# Altium footprint library founder.PcbLib: 220 footprints (part 9 of 14)
Each footprint in its own frame and in the unit in brackets; x right, y up, seen from the top. Pads: shape width x height; smd on the part's side, far side on the other; paste and mask are expansions set on the pad; w line width, h text height; cw(c..) or ccw(c..) is an arc to the next point about the centre after c.
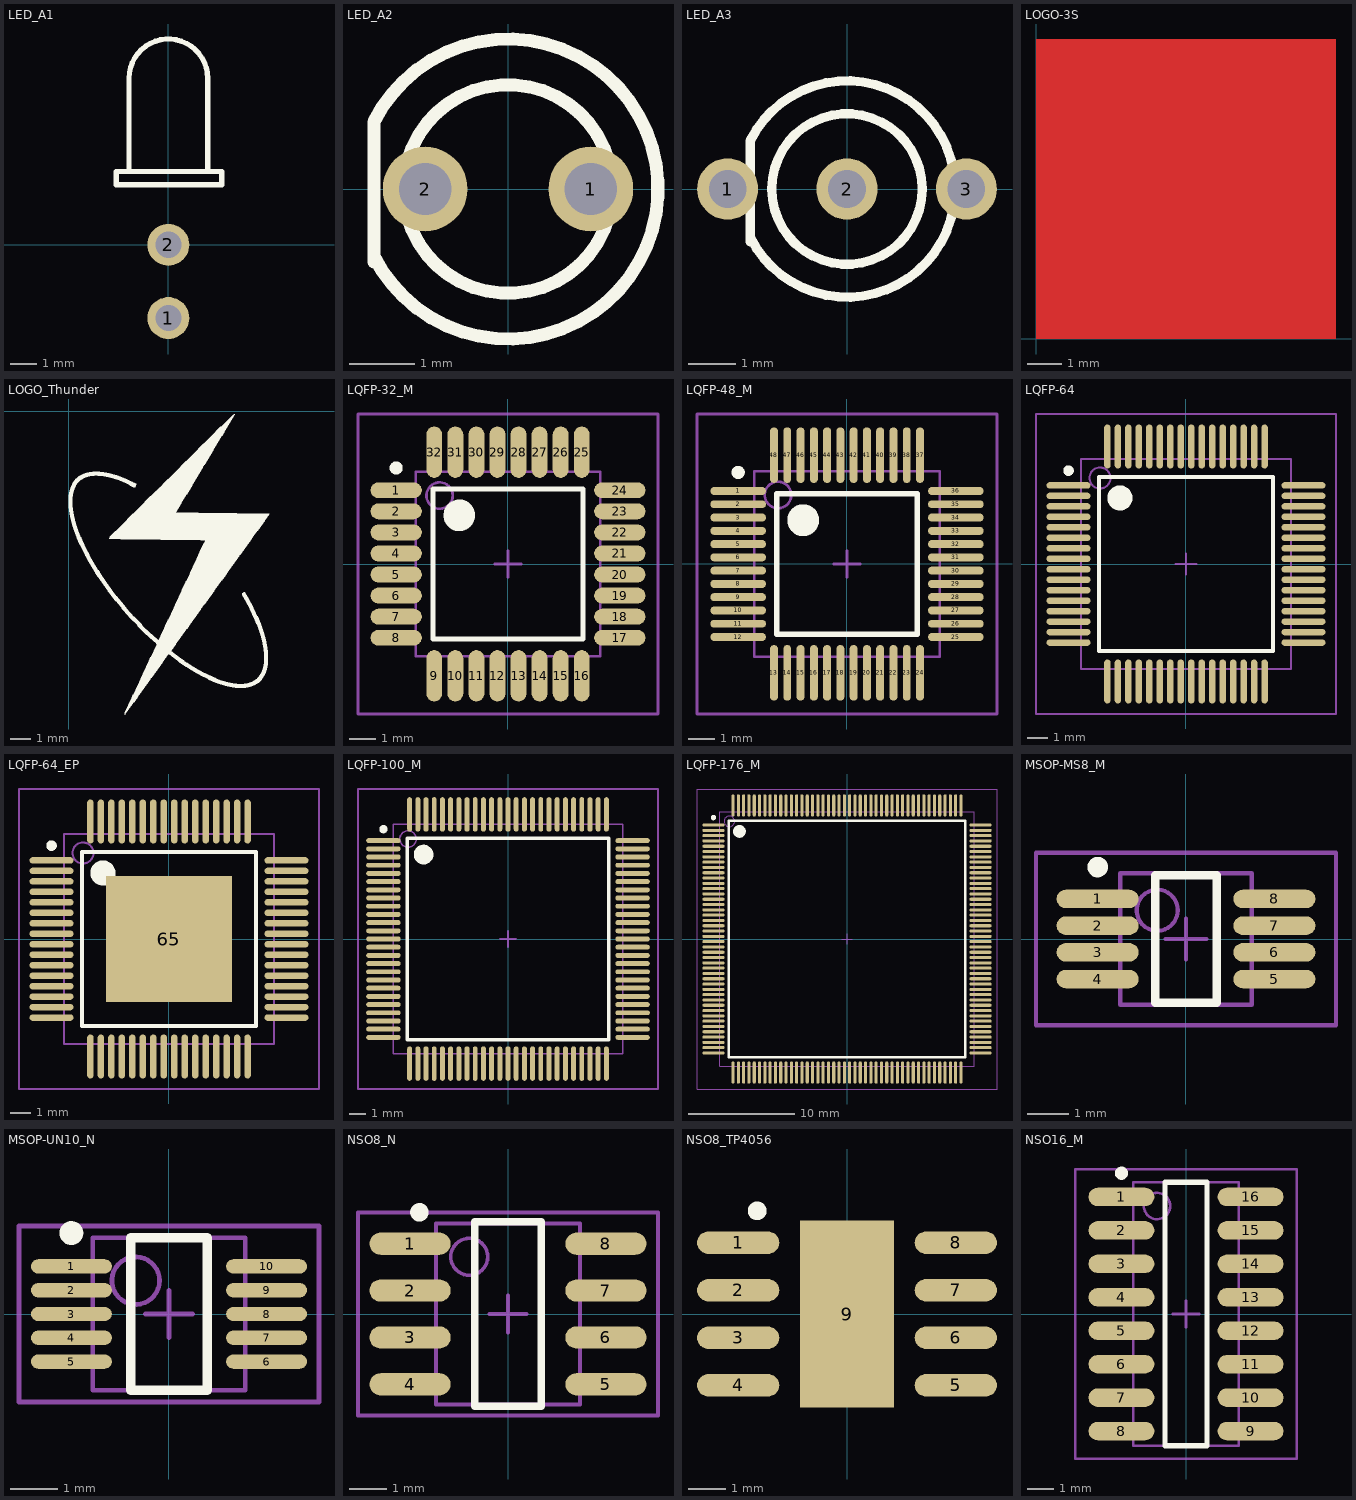
[diagram p8: the footprints below, top view; thin cyan lines are the x and y axes]

## LED_A1 [mm] "直径3MM二极管"
height 3.5
pads (2):
  round 1.6 hole 1: 1(0,-2.794) 2(0,0)
Top Overlay:
  lines w0.2: -1.5,2.852 -1.5,6.35 cw(c0,6.35) 1.5,6.35 1.5,2.852 ; -1.984,2.286 -1.984,2.794 2.032,2.794 2.032,2.286 -1.984,2.286

## LED_A2 [mm] "直径3MM二极管"
height 5.5
pads (2):
  round 1.3 hole 0.8: 1(1.27,0) 2(-1.27,0)
Top Overlay:
  circle w0.2: c0,0 r1.6
  lines w0.2: -2.057,-1.118 -2.057,1.029 cw(c0,0) -2.057,-1.029

## LED_A3 [mm] "直径3MM二极管"
height 5.5
pads (3):
  round 1.3 hole 0.8: 1(-2.54,0) 2(0,0) 3(2.54,0)
Top Overlay:
  circle w0.2: c0,0 r1.6
  lines w0.2: -2.057,-1.118 -2.057,1.029 cw(c0,0) -2.057,-1.029

## LOGO-3S [mm]
Top Layer:
  rectangle: 0,0 8.8,8.8
Top Paste:
  circle w1.8: c4.399,4.401 r1.206
  region: 2.383,2.992 0.205,2.992 0.205,3.655 1.987,3.964 2.012,3.813 2.047,3.694 2.084,3.589 2.162,3.386 2.247,3.212
  region: 6.398,5.8 8.576,5.8 8.576,5.137 6.795,4.828 6.77,4.979 6.734,5.098 6.697,5.204 6.619,5.406 6.534,5.58
  region: 0.203,4.654 1.967,4.654 1.96,4.606 1.952,4.519 1.948,4.416 1.95,4.304 1.96,4.201 1.976,4.147 0.203,4.147
  region: 8.587,4.147 6.823,4.147 6.831,4.195 6.838,4.282 6.842,4.385 6.84,4.497 6.831,4.6 6.815,4.654 8.587,4.654
  region: 8.525,2.993 6.389,2.993 6.478,3.12 6.568,3.288 6.629,3.414 6.687,3.573 6.705,3.63 8.581,3.953 8.581,3.692 8.566,3.364 8.543,3.09
  region: 8.596,5.988 6.284,5.988 6.178,6.094 6.09,6.183 5.942,6.31 5.733,6.465 5.428,6.629 5.185,6.723 4.948,6.786 4.682,6.835 4.44,6.851 4.192,6.847 3.924,6.805 3.706,6.749 3.41,6.639 3.193,6.514 2.953,6.371 2.571,6.015 0.326,6.015 0.326,6.014 0.402,6.272 0.516,6.562 0.71,6.915 0.901,7.21 1.158,7.503 1.485,7.806 1.885,8.095 2.274,8.294 2.698,8.453 3.078,8.549 3.583,8.605 8.596,8.605
  region: 0.257,5.8 2.394,5.8 2.304,5.672 2.215,5.504 2.154,5.378 2.095,5.22 2.078,5.162 0.202,4.84 0.202,5.101 0.216,5.429 0.239,5.703
  region: 0.203,2.813 2.515,2.813 2.62,2.707 2.709,2.618 2.856,2.491 3.065,2.336 3.371,2.172 3.614,2.078 3.851,2.015 4.117,1.966 4.359,1.95 4.607,1.954 4.874,1.996 5.092,2.052 5.389,2.162 5.606,2.287 5.846,2.43 6.228,2.786 8.473,2.786 8.473,2.787 8.397,2.529 8.283,2.239 8.089,1.886 7.898,1.591 7.641,1.298 7.313,0.995 6.914,0.706 6.524,0.507 6.101,0.348 5.721,0.252 5.216,0.196 0.203,0.196
Top Solder:
  circle w1.8: c4.398,4.403 r1.206
  region: 2.383,2.994 0.205,2.994 0.205,3.657 1.986,3.966 2.011,3.815 2.046,3.696 2.083,3.591 2.161,3.388 2.247,3.214
  region: 6.397,5.802 8.575,5.802 8.575,5.139 6.794,4.83 6.769,4.981 6.734,5.1 6.697,5.206 6.619,5.408 6.533,5.582
  region: 0.203,4.656 1.967,4.656 1.959,4.608 1.952,4.521 1.948,4.418 1.95,4.306 1.959,4.203 1.975,4.149 0.203,4.149
  region: 8.587,4.149 6.823,4.149 6.83,4.197 6.838,4.284 6.841,4.387 6.839,4.499 6.83,4.602 6.814,4.656 8.587,4.656
  region: 8.524,2.995 6.388,2.995 6.477,3.122 6.567,3.29 6.628,3.416 6.687,3.575 6.704,3.632 8.58,3.955 8.58,3.694 8.565,3.366 8.542,3.092
  region: 8.595,5.99 6.283,5.99 6.178,6.096 6.089,6.185 5.942,6.312 5.733,6.467 5.427,6.631 5.184,6.725 4.947,6.788 4.681,6.837 4.439,6.853 4.191,6.849 3.924,6.807 3.706,6.751 3.409,6.641 3.192,6.516 2.952,6.373 2.57,6.017 0.325,6.017 0.325,6.016 0.401,6.274 0.515,6.564 0.709,6.917 0.9,7.212 1.157,7.505 1.485,7.808 1.884,8.097 2.274,8.296 2.697,8.455 3.077,8.551 3.582,8.607 8.595,8.607
  region: 0.257,5.802 2.393,5.802 2.304,5.674 2.214,5.506 2.153,5.38 2.095,5.222 2.077,5.164 0.201,4.842 0.201,5.103 0.216,5.431 0.239,5.705
  region: 0.202,2.815 2.514,2.815 2.62,2.709 2.709,2.62 2.856,2.493 3.065,2.338 3.37,2.174 3.613,2.08 3.85,2.017 4.116,1.968 4.358,1.952 4.606,1.956 4.874,1.998 5.092,2.054 5.388,2.164 5.605,2.289 5.845,2.432 6.228,2.788 8.472,2.788 8.472,2.789 8.396,2.531 8.282,2.241 8.088,1.888 7.897,1.593 7.64,1.3 7.313,0.997 6.913,0.708 6.524,0.509 6.1,0.35 5.72,0.254 5.215,0.198 0.202,0.198

## LOGO_Thunder [mm]
Top Overlay:
  drawing of 2284 lines, arcs and shapes, not listed

## LQFP-32_M [mm] "Thin QFP, 32-Leads, Body 7x7mm, Pitch 0.8mm, IPC Low Density"
height 1.6
pads (32):
  oval 1.95x0.6 smd: 1(-4.25,2.8) 2(-4.25,2) 3(-4.25,1.2) 4(-4.25,0.4) 5(-4.25,-0.4) 6(-4.25,-1.2) 7(-4.25,-2) 8(-4.25,-2.8) 17(4.25,-2.8) 18(4.25,-2) 19(4.25,-1.2) 20(4.25,-0.4) 21(4.25,0.4) 22(4.25,1.2) 23(4.25,2) 24(4.25,2.8)
  oval 0.6x1.95 smd: 9(-2.8,-4.25) 10(-2,-4.25) 11(-1.2,-4.25) 12(-0.4,-4.25) 13(0.4,-4.25) 14(1.2,-4.25) 15(2,-4.25) 16(2.8,-4.25) 25(2.8,4.25) 26(2,4.25) 27(1.2,4.25) 28(0.4,4.25) 29(-0.4,4.25) 30(-1.2,4.25) 31(-2,4.25) 32(-2.8,4.25)
Top Overlay:
  circle w0.25: c-4.25,3.65 r0.125
  circle w0.6: c-1.85,1.85 r0.3
  lines w0.2: -2.85,-2.85 -2.85,2.85 2.85,2.85 2.85,-2.85 -2.85,-2.85
Mechanical 13:
  circle w0.1: c-2.6,2.6 r0.5
  lines w0.1: -3.5,-3.5 -3.5,3.5 3.5,3.5 3.5,-3.5 -3.5,-3.5
Mechanical 15:
  lines w0.1: -0.5,0 0.5,0 ; 0,-0.5 0,0.5 ; -5.7,-5.7 -5.7,5.7 5.7,5.7 5.7,-5.7 -5.7,-5.7
3D body: height 1.6, standoff 0, extent -3.5,-3.5 3.5,3.5

## LQFP-48_M [mm] "Thin QFP, 48-Leads, Body 7x7mm, Pitch 0.5mm, IPC Low Density"
height 1.6
pads (48):
  oval 2.1x0.3 smd: 1(-4.1,2.75) 2(-4.1,2.25) 3(-4.1,1.75) 4(-4.1,1.25) 5(-4.1,0.75) 6(-4.1,0.25) 7(-4.1,-0.25) 8(-4.1,-0.75) 9(-4.1,-1.25) 10(-4.1,-1.75) 11(-4.1,-2.25) 12(-4.1,-2.75) 25(4.1,-2.75) 26(4.1,-2.25) 27(4.1,-1.75) 28(4.1,-1.25) 29(4.1,-0.75) 30(4.1,-0.25) 31(4.1,0.25) 32(4.1,0.75) 33(4.1,1.25) 34(4.1,1.75) 35(4.1,2.25) 36(4.1,2.75)
  oval 0.3x2.1 smd: 13(-2.75,-4.1) 14(-2.25,-4.1) 15(-1.75,-4.1) 16(-1.25,-4.1) 17(-0.75,-4.1) 18(-0.25,-4.1) 19(0.25,-4.1) 20(0.75,-4.1) 21(1.25,-4.1) 22(1.75,-4.1) 23(2.25,-4.1) 24(2.75,-4.1) 37(2.75,4.1) 38(2.25,4.1) 39(1.75,4.1) 40(1.25,4.1) 41(0.75,4.1) 42(0.25,4.1) 43(-0.25,4.1) 44(-0.75,4.1) 45(-1.25,4.1) 46(-1.75,4.1) 47(-2.25,4.1) 48(-2.75,4.1)
Top Overlay:
  circle w0.6: c-1.65,1.65 r0.3
  circle w0.25: c-4.1,3.45 r0.125
  lines w0.2: -2.65,-2.65 2.65,-2.65 2.65,2.65 -2.65,2.65 -2.65,-2.65
Mechanical 13:
  circle w0.1: c-2.6,2.6 r0.5
  lines w0.1: -3.5,-3.5 3.5,-3.5 3.5,3.5 -3.5,3.5 -3.5,-3.5
Mechanical 15:
  lines w0.1: -0.5,0 0.5,0 ; 0,-0.5 0,0.5 ; -5.65,-5.65 5.65,-5.65 5.65,5.65 -5.65,5.65 -5.65,-5.65
3D body: height 1.6, standoff 0, extent -3.5,-3.5 3.5,3.5

## LQFP-64 [mm] "LQFP64"
height 1.5
pads (64):
  oval 2.1x0.3 smd: 1(-5.6,3.75) 2(-5.6,3.25) 3(-5.6,2.75) 4(-5.6,2.25) 5(-5.6,1.75) 6(-5.6,1.25) 7(-5.6,0.75) 8(-5.6,0.25) 9(-5.6,-0.25) 10(-5.6,-0.75) 11(-5.6,-1.25) 12(-5.6,-1.75) 13(-5.6,-2.25) 14(-5.6,-2.75) 15(-5.6,-3.25) 16(-5.6,-3.75) 33(5.6,-3.75) 34(5.6,-3.25) 35(5.6,-2.75) 36(5.6,-2.25) 37(5.6,-1.75) 38(5.6,-1.25) 39(5.6,-0.75) 40(5.6,-0.25) 41(5.6,0.25) 42(5.6,0.75) 43(5.6,1.25) 44(5.6,1.75) 45(5.6,2.25) 46(5.6,2.75) 47(5.6,3.25) 48(5.6,3.75)
  oval 0.3x2.1 smd: 17(-3.75,-5.6) 18(-3.25,-5.6) 19(-2.75,-5.6) 20(-2.25,-5.6) 21(-1.75,-5.6) 22(-1.25,-5.6) 23(-0.75,-5.6) 24(-0.25,-5.6) 25(0.25,-5.6) 26(0.75,-5.6) 27(1.25,-5.6) 28(1.75,-5.6) 29(2.25,-5.6) 30(2.75,-5.6) 31(3.25,-5.6) 32(3.75,-5.6) 49(3.75,5.6) 50(3.25,5.6) 51(2.75,5.6) 52(2.25,5.6) 53(1.75,5.6) 54(1.25,5.6) 55(0.75,5.6) 56(0.25,5.6) 57(-0.25,5.6) 58(-0.75,5.6) 59(-1.25,5.6) 60(-1.75,5.6) 61(-2.25,5.6) 62(-2.75,5.6) 63(-3.25,5.6) 64(-3.75,5.6)
Top Overlay:
  circle w0.25: c-5.6,4.45 r0.125
  circle w0.6: c-3.15,3.15 r0.3
  lines w0.2: -4.15,-4.15 -4.15,4.15 4.15,4.15 4.15,-4.15 -4.15,-4.15
Mechanical 13:
  circle w0.1: c-4.1,4.1 r0.5
  lines w0.1: -5,-5 -5,5 5,5 5,-5 -5,-5
Mechanical 15:
  lines w0.1: -0.5,0 0.5,0 ; 0,-0.5 0,0.5 ; -7.15,-7.15 -7.15,7.15 7.15,7.15 7.15,-7.15 -7.15,-7.15
3D body: height 1.6, standoff 0, extent -5,-5 5,5

## LQFP-64_EP [mm] "LQFP64"
height 1.5
pads (65):
  oval 2.1x0.3 smd: 1(-5.6,3.75) 2(-5.6,3.25) 3(-5.6,2.75) 4(-5.6,2.25) 5(-5.6,1.75) 6(-5.6,1.25) 7(-5.6,0.75) 8(-5.6,0.25) 9(-5.6,-0.25) 10(-5.6,-0.75) 11(-5.6,-1.25) 12(-5.6,-1.75) 13(-5.6,-2.25) 14(-5.6,-2.75) 15(-5.6,-3.25) 16(-5.6,-3.75) 33(5.6,-3.75) 34(5.6,-3.25) 35(5.6,-2.75) 36(5.6,-2.25) 37(5.6,-1.75) 38(5.6,-1.25) 39(5.6,-0.75) 40(5.6,-0.25) 41(5.6,0.25) 42(5.6,0.75) 43(5.6,1.25) 44(5.6,1.75) 45(5.6,2.25) 46(5.6,2.75) 47(5.6,3.25) 48(5.6,3.75)
  oval 0.3x2.1 smd: 17(-3.75,-5.6) 18(-3.25,-5.6) 19(-2.75,-5.6) 20(-2.25,-5.6) 21(-1.75,-5.6) 22(-1.25,-5.6) 23(-0.75,-5.6) 24(-0.25,-5.6) 25(0.25,-5.6) 26(0.75,-5.6) 27(1.25,-5.6) 28(1.75,-5.6) 29(2.25,-5.6) 30(2.75,-5.6) 31(3.25,-5.6) 32(3.75,-5.6) 49(3.75,5.6) 50(3.25,5.6) 51(2.75,5.6) 52(2.25,5.6) 53(1.75,5.6) 54(1.25,5.6) 55(0.75,5.6) 56(0.25,5.6) 57(-0.25,5.6) 58(-0.75,5.6) 59(-1.25,5.6) 60(-1.75,5.6) 61(-2.25,5.6) 62(-2.75,5.6) 63(-3.25,5.6) 64(-3.75,5.6)
  rect 6x6 smd: 65(0,0)
Top Overlay:
  circle w0.6: c-3.15,3.15 r0.3
  circle w0.25: c-5.6,4.45 r0.125
  lines w0.2: -4.15,-4.15 4.15,-4.15 4.15,4.15 -4.15,4.15 -4.15,-4.15
Mechanical 13:
  circle w0.1: c-4.1,4.1 r0.5
  lines w0.1: -5,-5 5,-5 5,5 -5,5 -5,-5
Mechanical 15:
  lines w0.1: -0.5,0 0.5,0 ; 0,-0.5 0,0.5 ; -7.15,-7.15 7.15,-7.15 7.15,7.15 -7.15,7.15 -7.15,-7.15
3D body: height 1.6, standoff 0, extent -5,-5 5,5

## LQFP-100_M [mm] "Thin QFP, 100"
height 1.6
pads (100):
  oval 2.1x0.3 smd: 1(-7.6,6) 2(-7.6,5.5) 3(-7.6,5) 4(-7.6,4.5) 5(-7.6,4) 6(-7.6,3.5) 7(-7.6,3) 8(-7.6,2.5) 9(-7.6,2) 10(-7.6,1.5) 11(-7.6,1) 12(-7.6,0.5) 13(-7.6,0) 14(-7.6,-0.5) 15(-7.6,-1) 16(-7.6,-1.5) 17(-7.6,-2) 18(-7.6,-2.5) 19(-7.6,-3) 20(-7.6,-3.5) 21(-7.6,-4) 22(-7.6,-4.5) 23(-7.6,-5) 24(-7.6,-5.5) 25(-7.6,-6) 51(7.6,-6) 52(7.6,-5.5) 53(7.6,-5) 54(7.6,-4.5) 55(7.6,-4) 56(7.6,-3.5) 57(7.6,-3) 58(7.6,-2.5) 59(7.6,-2) 60(7.6,-1.5) 61(7.6,-1) 62(7.6,-0.5) 63(7.6,0) 64(7.6,0.5) 65(7.6,1) 66(7.6,1.5) 67(7.6,2) 68(7.6,2.5) 69(7.6,3) 70(7.6,3.5) 71(7.6,4) 72(7.6,4.5) 73(7.6,5) 74(7.6,5.5) 75(7.6,6)
  oval 0.3x2.1 smd: 26(-6,-7.6) 27(-5.5,-7.6) 28(-5,-7.6) 29(-4.5,-7.6) 30(-4,-7.6) 31(-3.5,-7.6) 32(-3,-7.6) 33(-2.5,-7.6) 34(-2,-7.6) 35(-1.5,-7.6) 36(-1,-7.6) 37(-0.5,-7.6) 38(0,-7.6) 39(0.5,-7.6) 40(1,-7.6) 41(1.5,-7.6) 42(2,-7.6) 43(2.5,-7.6) 44(3,-7.6) 45(3.5,-7.6) 46(4,-7.6) 47(4.5,-7.6) 48(5,-7.6) 49(5.5,-7.6) 50(6,-7.6) 76(6,7.6) 77(5.5,7.6) 78(5,7.6) 79(4.5,7.6) 80(4,7.6) 81(3.5,7.6) 82(3,7.6) 83(2.5,7.6) 84(2,7.6) 85(1.5,7.6) 86(1,7.6) 87(0.5,7.6) 88(0,7.6) 89(-0.5,7.6) 90(-1,7.6) 91(-1.5,7.6) 92(-2,7.6) 93(-2.5,7.6) 94(-3,7.6) 95(-3.5,7.6) 96(-4,7.6) 97(-4.5,7.6) 98(-5,7.6) 99(-5.5,7.6) 100(-6,7.6)
Top Overlay:
  circle w0.6: c-5.15,5.15 r0.3
  circle w0.25: c-7.6,6.7 r0.125
  lines w0.2: -6.15,-6.15 6.15,-6.15 6.15,6.15 -6.15,6.15 -6.15,-6.15
Mechanical 13:
  circle w0.1: c-6.1,6.1 r0.5
  lines w0.1: -7,-7 7,-7 7,7 -7,7 -7,-7
Mechanical 15:
  lines w0.1: -0.5,0 0.5,0 ; 0,-0.5 0,0.5 ; -9.15,-9.15 9.15,-9.15 9.15,9.15 -9.15,9.15 -9.15,-9.15
3D body: height 0.8, standoff 0, extent -7,-7 7,7

## LQFP-176_M [mm] "Thin QFP, 176-Leads, Body 24x24mm, Pitch 0.5mm, IPC Low Density"
height 1.6
pads (176):
  oval 2.1x0.3 smd: 1(-12.6,10.75) 2(-12.6,10.25) 3(-12.6,9.75) 4(-12.6,9.25) 5(-12.6,8.75) 6(-12.6,8.25) 7(-12.6,7.75) 8(-12.6,7.25) 9(-12.6,6.75) 10(-12.6,6.25) 11(-12.6,5.75) 12(-12.6,5.25) 13(-12.6,4.75) 14(-12.6,4.25) 15(-12.6,3.75) 16(-12.6,3.25) 17(-12.6,2.75) 18(-12.6,2.25) 19(-12.6,1.75) 20(-12.6,1.25) 21(-12.6,0.75) 22(-12.6,0.25) 23(-12.6,-0.25) 24(-12.6,-0.75) 25(-12.6,-1.25) 26(-12.6,-1.75) 27(-12.6,-2.25) 28(-12.6,-2.75) 29(-12.6,-3.25) 30(-12.6,-3.75) 31(-12.6,-4.25) 32(-12.6,-4.75) 33(-12.6,-5.25) 34(-12.6,-5.75) 35(-12.6,-6.25) 36(-12.6,-6.75) 37(-12.6,-7.25) 38(-12.6,-7.75) 39(-12.6,-8.25) 40(-12.6,-8.75) 41(-12.6,-9.25) 42(-12.6,-9.75) 43(-12.6,-10.25) 44(-12.6,-10.75) 89(12.6,-10.75) 90(12.6,-10.25) 91(12.6,-9.75) 92(12.6,-9.25) 93(12.6,-8.75) 94(12.6,-8.25) 95(12.6,-7.75) 96(12.6,-7.25) 97(12.6,-6.75) 98(12.6,-6.25) 99(12.6,-5.75) 100(12.6,-5.25) 101(12.6,-4.75) 102(12.6,-4.25) 103(12.6,-3.75) 104(12.6,-3.25) 105(12.6,-2.75) 106(12.6,-2.25) 107(12.6,-1.75) 108(12.6,-1.25) 109(12.6,-0.75) 110(12.6,-0.25) 111(12.6,0.25) 112(12.6,0.75) 113(12.6,1.25) 114(12.6,1.75) 115(12.6,2.25) 116(12.6,2.75) 117(12.6,3.25) 118(12.6,3.75) 119(12.6,4.25) 120(12.6,4.75) 121(12.6,5.25) 122(12.6,5.75) 123(12.6,6.25) 124(12.6,6.75) 125(12.6,7.25) 126(12.6,7.75) 127(12.6,8.25) 128(12.6,8.75) 129(12.6,9.25) 130(12.6,9.75) 131(12.6,10.25) 132(12.6,10.75)
  oval 0.3x2.1 smd: 45(-10.75,-12.6) 46(-10.25,-12.6) 47(-9.75,-12.6) 48(-9.25,-12.6) 49(-8.75,-12.6) 50(-8.25,-12.6) 51(-7.75,-12.6) 52(-7.25,-12.6) 53(-6.75,-12.6) 54(-6.25,-12.6) 55(-5.75,-12.6) 56(-5.25,-12.6) 57(-4.75,-12.6) 58(-4.25,-12.6) 59(-3.75,-12.6) 60(-3.25,-12.6) 61(-2.75,-12.6) 62(-2.25,-12.6) 63(-1.75,-12.6) 64(-1.25,-12.6) 65(-0.75,-12.6) 66(-0.25,-12.6) 67(0.25,-12.6) 68(0.75,-12.6) 69(1.25,-12.6) 70(1.75,-12.6) 71(2.25,-12.6) 72(2.75,-12.6) 73(3.25,-12.6) 74(3.75,-12.6) 75(4.25,-12.6) 76(4.75,-12.6) 77(5.25,-12.6) 78(5.75,-12.6) 79(6.25,-12.6) 80(6.75,-12.6) 81(7.25,-12.6) 82(7.75,-12.6) 83(8.25,-12.6) 84(8.75,-12.6) 85(9.25,-12.6) 86(9.75,-12.6) 87(10.25,-12.6) 88(10.75,-12.6) 133(10.75,12.6) 134(10.25,12.6) 135(9.75,12.6) 136(9.25,12.6) 137(8.75,12.6) 138(8.25,12.6) 139(7.75,12.6) 140(7.25,12.6) 141(6.75,12.6) 142(6.25,12.6) 143(5.75,12.6) 144(5.25,12.6) 145(4.75,12.6) 146(4.25,12.6) 147(3.75,12.6) 148(3.25,12.6) 149(2.75,12.6) 150(2.25,12.6) 151(1.75,12.6) 152(1.25,12.6) 153(0.75,12.6) 154(0.25,12.6) 155(-0.25,12.6) 156(-0.75,12.6) 157(-1.25,12.6) 158(-1.75,12.6) 159(-2.25,12.6) 160(-2.75,12.6) 161(-3.25,12.6) 162(-3.75,12.6) 163(-4.25,12.6) 164(-4.75,12.6) 165(-5.25,12.6) 166(-5.75,12.6) 167(-6.25,12.6) 168(-6.75,12.6) 169(-7.25,12.6) 170(-7.75,12.6) 171(-8.25,12.6) 172(-8.75,12.6) 173(-9.25,12.6) 174(-9.75,12.6) 175(-10.25,12.6) 176(-10.75,12.6)
Top Overlay:
  circle w0.6: c-10.15,10.15 r0.3
  circle w0.25: c-12.6,11.45 r0.125
  lines w0.2: -11.15,-11.15 11.15,-11.15 11.15,11.15 -11.15,11.15 -11.15,-11.15
Mechanical 13:
  circle w0.1: c-11.1,11.1 r0.5
  lines w0.1: -12,-12 12,-12 12,12 -12,12 -12,-12
Mechanical 15:
  lines w0.1: -0.5,0 0.5,0 ; 0,-0.5 0,0.5 ; -14.15,-14.15 14.15,-14.15 14.15,14.15 -14.15,14.15 -14.15,-14.15
3D body: height 1.6, standoff 0, extent -12,-12 12,12

## MSOP-MS8_M [mm] "TSOP, 8-Leads, Body 3x3mm, Pitch 0.65mm, IPC Low Density"
height 1.1
pads (8):
  oval 2x0.45 smd: 1(-2.15,0.975) 2(-2.15,0.325) 3(-2.15,-0.325) 4(-2.15,-0.975) 5(2.15,-0.975) 6(2.15,-0.325) 7(2.15,0.325) 8(2.15,0.975)
Top Overlay:
  circle w0.25: c-2.15,1.75 r0.125
  lines w0.2: -0.75,-1.55 0.75,-1.55 0.75,1.55 -0.75,1.55 -0.75,-1.55
Mechanical 13:
  circle w0.1: c-0.7,0.7 r0.5
  lines w0.1: -1.6,-1.6 1.6,-1.6 1.6,1.6 -1.6,1.6 -1.6,-1.6
Mechanical 15:
  lines w0.1: -0.5,0 0.5,0 ; 0,-0.5 0,0.5 ; -3.65,-2.1 3.65,-2.1 3.65,2.1 -3.65,2.1 -3.65,-2.1
3D body: height 1.1, standoff 0, extent -1.6,-1.6 1.6,1.6

## MSOP-UN10_N [mm] "TSSOP"
height 1.1
pads (10):
  oval 1.7x0.3 smd: 1(-2.05,1) 2(-2.05,0.5) 3(-2.05,0) 4(-2.05,-0.5) 5(-2.05,-1) 6(2.05,-1) 7(2.05,-0.5) 8(2.05,0) 9(2.05,0.5) 10(2.05,1)
Top Overlay:
  circle w0.25: c-2.05,1.7 r0.125
  lines w0.2: -0.8,-1.6 -0.8,1.6 0.8,1.6 0.8,-1.6 -0.8,-1.6
Mechanical 13:
  circle w0.1: c-0.7,0.7 r0.5
  lines w0.1: -1.6,-1.6 -1.6,1.6 1.6,1.6 1.6,-1.6 -1.6,-1.6
Mechanical 15:
  lines w0.1: -0.5,0 0.5,0 ; 0,-0.5 0,0.5 ; -3.15,-1.85 -3.15,1.85 3.15,1.85 3.15,-1.85 -3.15,-1.85
3D body: height 1.1, standoff 0, extent -1.6,-1.6 1.6,1.6

## NSO8_N [mm] "SOIC-max660"
height 1.75
pads (8):
  oval 2.2x0.6 smd: 1(-2.654,1.905) 2(-2.654,0.635) 3(-2.654,-0.635) 4(-2.654,-1.905) 5(2.654,-1.905) 6(2.654,-0.635) 7(2.654,0.635) 8(2.654,1.905)
Top Overlay:
  circle w0.25: c-2.4,2.755 r0.125
  lines w0.2: -0.9,-2.5 0.9,-2.5 0.9,2.5 -0.9,2.5 -0.9,-2.5
Mechanical 13:
  circle w0.1: c-1.05,1.55 r0.5
  lines w0.1: -1.95,-2.45 1.95,-2.45 1.95,2.45 -1.95,2.45 -1.95,-2.45
Mechanical 15:
  lines w0.1: -0.5,0 0.5,0 ; 0,-0.5 0,0.5 ; -4.064,-2.75 4.064,-2.75 4.064,2.75 -4.064,2.75 -4.064,-2.75
3D body: height 1.75, standoff 0, extent -1.95,-2.45 1.95,2.45

## NSO8_TP4056 [mm] "SOIC-max660"
height 1.75
pads (9):
  oval 2.2x0.6 smd: 1(-2.908,1.905) 2(-2.908,0.635) 3(-2.908,-0.635) 4(-2.908,-1.905) 5(2.908,-1.905) 6(2.908,-0.635) 7(2.908,0.635) 8(2.908,1.905)
  rect 2.5x5 smd: 9(0,0)
Top Overlay:
  circle w0.25: c-2.4,2.755 r0.125

## NSO16_M [mm] "SOIC, 16-Leads, Body 9.9x3.9mm, Pitch 1.27mm, IPC Low Density"
height 1.75
pads (16):
  oval 2.5x0.7 smd: 1(-2.45,4.445) 2(-2.45,3.175) 3(-2.45,1.905) 4(-2.45,0.635) 5(-2.45,-0.635) 6(-2.45,-1.905) 7(-2.45,-3.175) 8(-2.45,-4.445) 9(2.45,-4.445) 10(2.45,-3.175) 11(2.45,-1.905) 12(2.45,-0.635) 13(2.45,0.635) 14(2.45,1.905) 15(2.45,3.175) 16(2.45,4.445)
Top Overlay:
  circle w0.25: c-2.45,5.345 r0.125
  lines w0.2: -0.8,-5 0.8,-5 0.8,5 -0.8,5 -0.8,-5
Mechanical 13:
  circle w0.1: c-1.1,4.1 r0.5
  lines w0.1: -2,-5 2,-5 2,5 -2,5 -2,-5
Mechanical 15:
  lines w0.1: -0.5,0 0.5,0 ; 0,-0.5 0,0.5 ; -4.2,-5.5 4.2,-5.5 4.2,5.5 -4.2,5.5 -4.2,-5.5
3D body: height 1.75, standoff 0, extent -2,-5 2,5